# EAGLE library part TLC5971 (library ISS-Notify)
RGB LED Driver with PWM, Constant current, RGB Color aware.
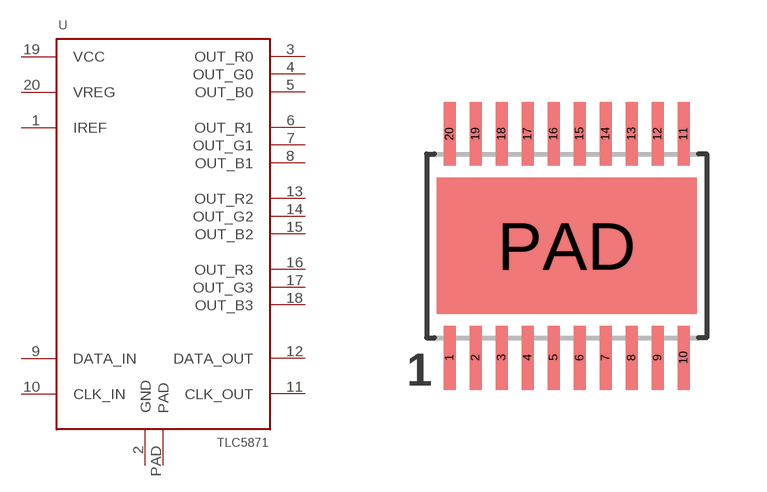
[diagram p4: symbol with the pads of R-PDSO-G20; footprint R-PDSO-G20]

Designator prefix U

## TLC5971  [R-PDSO-G20]
1  IREF
2  GND
3  OUT_R0
4  OUT_G0
5  OUT_B0
6  OUT_R1
7  OUT_G1
8  OUT_B1
9  DATA_IN
10  CLK_IN
11  CLK_OUT
12  DATA_OUT
13  OUT_R2
14  OUT_G2
15  OUT_B2
16  OUT_R3
17  OUT_G3
18  OUT_B3
19  VCC
20  VREG
PAD  PAD

## Footprint R-PDSO-G20 (pad centres in mm)
smd 0.3 x 1.6: 1 -2.925,-2.8; 2 -2.275,-2.8; 3 -1.625,-2.8; 4 -0.975,-2.8; 5 -0.325,-2.8; 6 0.325,-2.8; 7 0.975,-2.8; 8 1.625,-2.8; 9 2.275,-2.8; 10 2.925,-2.8; 11 2.925,2.8; 12 2.275,2.8; 13 1.625,2.8; 14 0.975,2.8; 15 0.325,2.8; 16 -0.325,2.8; 17 -0.975,2.8; 18 -1.625,2.8; 19 -2.275,2.8; 20 -2.925,2.8
smd 6.5 x 3.4: PAD 0,0